# Altium footprint library micro-motorola.PCBLIB: 28 footprints (part 2 of 2)
Each footprint in its own frame and in the unit in brackets; x right, y up, seen from the top. Pads: shape width x height; smd on the part's side, far side on the other; paste and mask are expansions set on the pad; w line width, h text height; cw(c..) or ccw(c..) is an arc to the next point about the centre after c.
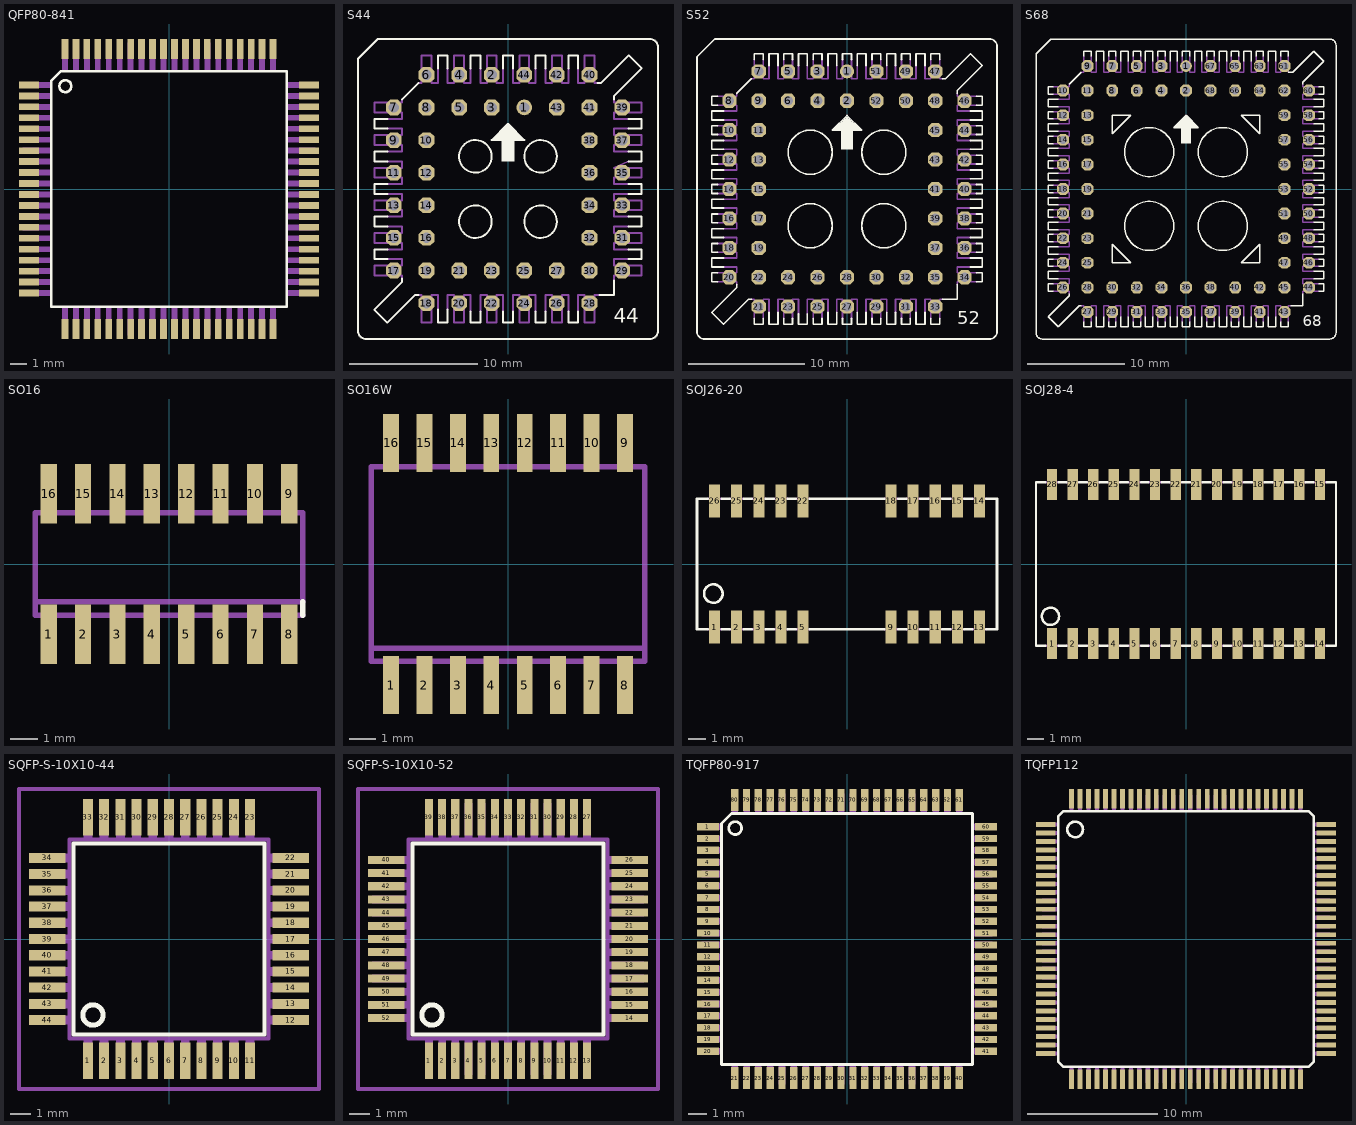
[diagram p1: the footprints below, top view; thin cyan lines are the x and y axes]

## QFP80-841 [mm]
pads (80):
  rect 1.2x0.4 smd: 1(-8.3,6.175) 2(-8.3,5.525) 3(-8.3,4.875) 4(-8.3,4.225) 5(-8.3,3.575) 6(-8.3,2.925) 7(-8.3,2.275) 8(-8.3,1.625) 9(-8.3,0.975) 10(-8.3,0.325) 11(-8.3,-0.325) 12(-8.3,-0.975) 13(-8.3,-1.625) 14(-8.3,-2.275) 15(-8.3,-2.925) 16(-8.3,-3.575) 17(-8.3,-4.225) 18(-8.3,-4.875) 19(-8.3,-5.525) 20(-8.3,-6.175) 41(8.3,-6.175) 42(8.3,-5.525) 43(8.3,-4.875) 44(8.3,-4.225) 45(8.3,-3.575) 46(8.3,-2.925) 47(8.3,-2.275) 48(8.3,-1.625) 49(8.3,-0.975) 50(8.3,-0.325) 51(8.3,0.325) 52(8.3,0.975) 53(8.3,1.625) 54(8.3,2.275) 55(8.3,2.925) 56(8.3,3.575) 57(8.3,4.225) 58(8.3,4.875) 59(8.3,5.525) 60(8.3,6.175)
  rect 0.4x1.2 smd: 21(-6.175,-8.3) 22(-5.525,-8.3) 23(-4.875,-8.3) 24(-4.225,-8.3) 25(-3.575,-8.3) 26(-2.925,-8.3) 27(-2.275,-8.3) 28(-1.625,-8.3) 29(-0.975,-8.3) 30(-0.325,-8.3) 31(0.325,-8.3) 32(0.975,-8.3) 33(1.625,-8.3) 34(2.275,-8.3) 35(2.925,-8.3) 36(3.575,-8.3) 37(4.225,-8.3) 38(4.875,-8.3) 39(5.525,-8.3) 40(6.175,-8.3) 61(6.175,8.3) 62(5.525,8.3) 63(4.875,8.3) 64(4.225,8.3) 65(3.575,8.3) 66(2.925,8.3) 67(2.275,8.3) 68(1.625,8.3) 69(0.975,8.3) 70(0.325,8.3) 71(-0.325,8.3) 72(-0.975,8.3) 73(-1.625,8.3) 74(-2.275,8.3) 75(-2.925,8.3) 76(-3.575,8.3) 77(-4.225,8.3) 78(-4.875,8.3) 79(-5.525,8.3) 80(-6.175,8.3)
Top Overlay:
  circle w0.152: c-6.15,6.1 r0.354
  lines w0.152: -6.98,-6.98 6.98,-6.98 6.98,6.98 -6.43,6.98 -6.98,6.43 -6.98,-6.98
Mechanical 16:
  rectangle: -8.7,6 -7.02,6.35
  rectangle: -8.7,5.35 -7.02,5.7
  rectangle: -8.7,4.7 -7.02,5.05
  rectangle: -8.7,4.05 -7.02,4.4
  rectangle: -8.7,3.4 -7.02,3.75
  rectangle: -8.7,2.75 -7.02,3.1
  rectangle: -8.7,2.1 -7.02,2.45
  rectangle: -8.7,1.45 -7.02,1.8
  rectangle: -8.7,0.8 -7.02,1.15
  rectangle: -8.7,0.15 -7.02,0.5
  rectangle: -8.7,-0.5 -7.02,-0.15
  rectangle: -8.7,-1.15 -7.02,-0.8
  rectangle: -8.7,-1.8 -7.02,-1.45
  rectangle: -8.7,-2.45 -7.02,-2.1
  rectangle: -8.7,-3.1 -7.02,-2.75
  rectangle: -8.7,-3.75 -7.02,-3.4
  rectangle: -8.7,-4.4 -7.02,-4.05
  rectangle: -8.7,-5.05 -7.02,-4.7
  rectangle: -8.7,-5.7 -7.02,-5.35
  rectangle: -8.7,-6.35 -7.02,-6
  rectangle: -6.35,-8.7 -6,-7.02
  rectangle: -5.7,-8.7 -5.35,-7.02
  rectangle: -5.05,-8.7 -4.7,-7.02
  rectangle: -4.4,-8.7 -4.05,-7.02
  rectangle: -3.75,-8.7 -3.4,-7.02
  rectangle: -3.1,-8.7 -2.75,-7.02
  rectangle: -2.45,-8.7 -2.1,-7.02
  rectangle: -1.8,-8.7 -1.45,-7.02
  rectangle: -1.15,-8.7 -0.8,-7.02
  rectangle: -0.5,-8.7 -0.15,-7.02
  rectangle: 0.15,-8.7 0.5,-7.02
  rectangle: 0.8,-8.7 1.15,-7.02
  rectangle: 1.45,-8.7 1.8,-7.02
  rectangle: 2.1,-8.7 2.45,-7.02
  rectangle: 2.75,-8.7 3.1,-7.02
  rectangle: 3.4,-8.7 3.75,-7.02
  rectangle: 4.05,-8.7 4.4,-7.02
  rectangle: 4.7,-8.7 5.05,-7.02
  rectangle: 5.35,-8.7 5.7,-7.02
  rectangle: 6,-8.7 6.35,-7.02
  rectangle: 7.02,-6.35 8.7,-6
  rectangle: 7.02,-5.7 8.7,-5.35
  rectangle: 7.02,-5.05 8.7,-4.7
  rectangle: 7.02,-4.4 8.7,-4.05
  rectangle: 7.02,-3.75 8.7,-3.4
  rectangle: 7.02,-3.1 8.7,-2.75
  rectangle: 7.02,-2.45 8.7,-2.1
  rectangle: 7.02,-1.8 8.7,-1.45
  rectangle: 7.02,-1.15 8.7,-0.8
  rectangle: 7.02,-0.5 8.7,-0.15
  rectangle: 7.02,0.15 8.7,0.5
  rectangle: 7.02,0.8 8.7,1.15
  rectangle: 7.02,1.45 8.7,1.8
  rectangle: 7.02,2.1 8.7,2.45
  rectangle: 7.02,2.75 8.7,3.1
  rectangle: 7.02,3.4 8.7,3.75
  rectangle: 7.02,4.05 8.7,4.4
  rectangle: 7.02,4.7 8.7,5.05
  rectangle: 7.02,5.35 8.7,5.7
  rectangle: 7.02,6 8.7,6.35
  rectangle: 6,7.02 6.35,8.7
  rectangle: 5.35,7.02 5.7,8.7
  rectangle: 4.7,7.02 5.05,8.7
  rectangle: 4.05,7.02 4.4,8.7
  rectangle: 3.4,7.02 3.75,8.7
  rectangle: 2.75,7.02 3.1,8.7
  rectangle: 2.1,7.02 2.45,8.7
  rectangle: 1.45,7.02 1.8,8.7
  rectangle: 0.8,7.02 1.15,8.7
  rectangle: 0.15,7.02 0.5,8.7
  rectangle: -0.5,7.02 -0.15,8.7
  rectangle: -1.15,7.02 -0.8,8.7
  rectangle: -1.8,7.02 -1.45,8.7
  rectangle: -2.45,7.02 -2.1,8.7
  rectangle: -3.1,7.02 -2.75,8.7
  rectangle: -3.75,7.02 -3.4,8.7
  rectangle: -4.4,7.02 -4.05,8.7
  rectangle: -5.05,7.02 -4.7,8.7
  rectangle: -5.7,7.02 -5.35,8.7
  rectangle: -6.35,7.02 -6,8.7

## S44 [mil]
pads (44):
  round 48 hole 32: 1(50,250)
  oct 48x48 hole 32: 2(-50,350) 3(-50,250) 4(-150,350) 5(-150,250) 6(-250,350) 7(-350,250) 8(-250,250) 9(-350,150) 10(-250,150) 11(-350,50) 12(-250,50) 13(-350,-50) 14(-250,-50) 15(-350,-150) 16(-250,-150) 17(-350,-250) 18(-250,-350) 19(-250,-250) 20(-150,-350) 21(-150,-250) 22(-50,-350) 23(-50,-250) 24(50,-350) 25(50,-250) 26(150,-350) 27(150,-250) 28(250,-350) 29(350,-250) 30(250,-250) 31(350,-150) 32(250,-150) 33(350,-50) 34(250,-50) 35(350,50) 36(250,50) 37(350,150) 38(250,150) 39(350,250) 40(250,350) 41(250,250) 42(150,350) 43(150,250) 44(50,350)
Top Overlay:
  circle w6: c-100,100 r50
  circle w6: c100,100 r50
  circle w6: c-100,-100 r50
  circle w6: c100,-100 r50
  rectangle: -20,85 20,160
  rectangle: -35,150 35,165
  rectangle: -25,165 25,175
  rectangle: -15,175 15,185
  rectangle: -5,185 5,195
  rectangle: -45,150 -35,155
  rectangle: -40,155 -35,160
  rectangle: -30,165 -25,170
  rectangle: -20,175 -15,180
  rectangle: -10,185 -5,190
  rectangle: 5,185 10,190
  rectangle: 15,175 20,180
  rectangle: 25,165 30,170
  rectangle: 35,150 45,155
  rectangle: 35,155 40,160
  lines w6: -370,-215 -410,-215 -410,-185 -370,-185 ; -370,-115 -410,-115 -410,-85 -370,-85 ; -370,-15 -410,-15 -410,15 -370,15 ; -370,85 -410,85 -410,115 -370,115 ; -370,185 -410,185 -410,215 -370,215 ; -325,-275 -325,-285 -410,-370 -370,-410 -285,-325 -275,-325 ; -325,275 -275,325 ; -215,-370 -215,-410 -185,-410 -185,-370 ; -215,370 -215,410 -185,410 -185,370 ; -115,-375 -115,-410 -85,-410 -85,-375 ; -115,370 -115,410 -85,410 -85,370 ; -15,-375 -15,-410 15,-410 15,-375 ; -15,370 -15,410 15,410 15,370 ; 85,-375 85,-410 115,-410 115,-375 ; 85,370 85,410 115,410 115,370 ; 185,-375 185,-410 215,-410 215,-375 ; 185,370 185,410 215,410 215,370 ; 275,325 285,325 370,410 410,370 325,285 325,275 ; 280,-325 325,-325 325,-280 ; 370,-215 410,-215 410,-185 370,-185 ; 370,-115 410,-115 410,-85 370,-85 ; 370,-15 410,-15 410,15 370,15 ; 370,85 410,85 410,115 370,115 ; 370,185 410,185 410,215 370,215 ; -460,-435 -460,400 -400,460 435,460 cw(c435,435) 460,435 460,-435 cw(c435,-435) 435,-460 -435,-460 cw(c-435,-435) -460,-435 ; -50,150 50,150 0,200 -50,150
  text "44" at 325,-425 h77.5
Mechanical 16:
  drawing of 159 lines, arcs and shapes, not listed

## S52 [mil]
pads (52):
  round 48 hole 32: 1(0,400)
  oct 48x48 hole 32: 2(0,300) 3(-100,400) 4(-100,300) 5(-200,400) 6(-200,300) 7(-300,400) 8(-400,300) 9(-300,300) 10(-400,200) 11(-300,200) 12(-400,100) 13(-300,100) 14(-400,0) 15(-300,0) 16(-400,-100) 17(-300,-100) 18(-400,-200) 19(-300,-200) 20(-400,-300) 21(-300,-400) 22(-300,-300) 23(-200,-400) 24(-200,-300) 25(-100,-400) 26(-100,-300) 27(0,-400) 28(0,-300) 29(100,-400) 30(100,-300) 31(200,-400) 32(200,-300) 33(300,-400) 34(400,-300) 35(300,-300) 36(400,-200) 37(300,-200) 38(400,-100) 39(300,-100) 40(400,0) 41(300,0) 42(400,100) 43(300,100) 44(400,200) 45(300,200) 46(400,300) 47(300,400) 48(300,300) 49(200,400) 50(200,300) 51(100,400) 52(100,300)
Top Overlay:
  drawing of 199 lines, arcs and shapes, not listed
  text "52" at 375,-475 h77.5
Mechanical 16:
  drawing of 160 lines, arcs and shapes, not listed

## S68 [mil]
pads (68):
  round 48 hole 32: 1(0,500)
  oct 48x48 hole 32: 2(0,400) 3(-100,500) 4(-100,400) 5(-200,500) 6(-200,400) 7(-300,500) 8(-300,400) 9(-400,500) 10(-500,400) 11(-400,400) 12(-500,300) 13(-400,300) 14(-500,200) 15(-400,200) 16(-500,100) 17(-400,100) 18(-500,0) 19(-400,0) 20(-500,-100) 21(-400,-100) 22(-500,-200) 23(-400,-200) 24(-500,-300) 25(-400,-300) 26(-500,-400) 27(-400,-500) 28(-400,-400) 29(-300,-500) 30(-300,-400) 31(-200,-500) 32(-200,-400) 33(-100,-500) 34(-100,-400) 35(0,-500) 36(0,-400) 37(100,-500) 38(100,-400) 39(200,-500) 40(200,-400) 41(300,-500) 42(300,-400) 43(400,-500) 44(500,-400) 45(400,-400) 46(500,-300) 47(400,-300) 48(500,-200) 49(400,-200) 50(500,-100) 51(400,-100) 52(500,0) 53(400,0) 54(500,100) 55(400,100) 56(500,200) 57(400,200) 58(500,300) 59(400,300) 60(500,400) 61(400,500) 62(400,400) 63(300,500) 64(300,400) 65(200,500) 66(200,400) 67(100,500) 68(100,400)
Top Overlay:
  drawing of 259 lines, arcs and shapes, not listed
  text "68" at 475,-575 h77.5
Mechanical 16:
  drawing of 207 lines, arcs and shapes, not listed

## SO16 [mil]
pads (16):
  rect 23.62x86.61 smd: 1(-175,-102.36) 2(-125,-102.36) 3(-75,-102.36) 4(-25,-102.36) 5(25,-102.36) 6(75,-102.36) 7(125,-102.36) 8(175,-102.36) 9(175,102.36) 10(125,102.36) 11(75,102.36) 12(25,102.36) 13(-25,102.36) 14(-75,102.36) 15(-125,102.36) 16(-175,102.36)
Top Overlay:
  lines w8: 194.49,-74.8 194.49,-55.12
Mechanical 16:
  rectangle: -184.65,-122.05 -165.35,-78.74
  rectangle: -134.65,-122.05 -115.35,-78.74
  rectangle: -84.65,-122.05 -65.35,-78.74
  rectangle: -34.65,-122.05 -15.35,-78.74
  rectangle: 65.35,78.74 84.65,122.05
  rectangle: 15.35,78.74 34.65,122.05
  rectangle: -34.65,78.74 -15.35,122.05
  rectangle: -84.65,78.74 -65.35,122.05
  rectangle: 15.35,-122.05 34.65,-78.74
  rectangle: 65.35,-122.05 84.65,-78.74
  rectangle: 115.35,-122.05 134.65,-78.74
  rectangle: 165.35,-122.05 184.65,-78.74
  rectangle: 165.35,78.74 184.65,122.05
  rectangle: 115.35,78.74 134.65,122.05
  rectangle: -134.65,78.74 -115.35,122.05
  rectangle: -184.65,78.74 -165.35,122.05
  lines w8: 194.49,-74.8 -194.49,-74.8 -194.49,-55.12 ; -194.49,-55.12 -194.49,74.8 194.49,74.8 194.49,-55.12 -194.49,-55.12

## SO16W [mil]
pads (16):
  rect 23.62x86.61 smd: 1(-175,-181.1) 2(-125,-181.1) 3(-75,-181.1) 4(-25,-181.1) 5(25,-181.1) 6(75,-181.1) 7(125,-181.1) 8(175,-181.1) 9(175,181.1) 10(125,181.1) 11(75,181.1) 12(25,181.1) 13(-25,181.1) 14(-75,181.1) 15(-125,181.1) 16(-175,181.1)
Mechanical 16:
  rectangle: -184.65,-209.45 -165.35,-149.61
  rectangle: -134.65,-209.45 -115.35,-149.61
  rectangle: -84.65,-209.45 -65.35,-149.61
  rectangle: -34.65,-209.45 -15.35,-149.61
  rectangle: 15.35,-209.45 34.65,-149.61
  rectangle: 65.35,-209.45 84.65,-149.61
  rectangle: 115.35,-209.45 134.65,-149.61
  rectangle: 165.35,-209.45 184.65,-149.61
  rectangle: 165.35,149.61 184.65,209.45
  rectangle: 115.35,149.61 134.65,209.45
  rectangle: 65.35,149.61 84.65,209.45
  rectangle: 15.35,149.61 34.65,209.45
  rectangle: -34.65,149.61 -15.35,209.45
  rectangle: -84.65,149.61 -65.35,209.45
  rectangle: -134.65,149.61 -115.35,209.45
  rectangle: -184.65,149.61 -165.35,209.45
  lines w8: -204.33,-125.98 -204.33,-145.67 204.33,-145.67 204.33,-125.98 ; -204.33,-125.98 -204.33,145.67 204.33,145.67 204.33,-125.98 ; -204.33,-125.98 204.33,-125.98

## SOJ26-20 [mil]
pads (20):
  rect 25x75 smd: 1(-300,-143) 2(-250,-143) 3(-200,-143) 4(-150,-143) 5(-100,-143) 9(100,-143) 10(150,-143) 11(200,-143) 12(250,-143) 13(300,-143) 14(300,143) 15(250,143) 16(200,143) 17(150,143) 18(100,143) 22(-100,143) 23(-150,143) 24(-200,143) 25(-250,143) 26(-300,143)
Top Overlay:
  circle w6: c-303,-67 r21
  lines w6: -316,-148 -340,-148 -340,148 -316,148 ; -284,-148 -266,-148 ; -284,148 -266,148 ; -234,-148 -216,-148 ; -234,148 -216,148 ; -184,-148 -166,-148 ; -184,148 -166,148 ; -134,-148 -116,-148 ; -134,148 -116,148 ; -84,-148 84,-148 ; -84,148 84,148 ; 116,-148 134,-148 ; 116,148 134,148 ; 166,-148 184,-148 ; 166,148 184,148 ; 216,-148 234,-148 ; 216,148 234,148 ; 266,-148 284,-148 ; 266,148 284,148 ; 316,-148 340,-148 340,148 316,148
Mechanical 16:
  rectangle: 290,150 310,170
  rectangle: 293,120 307,150
  rectangle: 290,-170 310,-150
  rectangle: 293,-150 307,-120
  rectangle: 240,150 260,170
  rectangle: 243,120 257,150
  rectangle: 190,150 210,170
  rectangle: 193,120 207,150
  rectangle: 140,150 160,170
  rectangle: 143,120 157,150
  rectangle: 90,150 110,170
  rectangle: 93,120 107,150
  rectangle: -110,150 -90,170
  rectangle: -107,120 -93,150
  rectangle: -160,150 -140,170
  rectangle: -157,120 -143,150
  rectangle: -210,150 -190,170
  rectangle: -207,120 -193,150
  rectangle: -260,150 -240,170
  rectangle: -257,120 -243,150
  rectangle: -310,150 -290,170
  rectangle: -307,120 -293,150
  rectangle: -310,-170 -290,-150
  rectangle: -307,-150 -293,-120
  rectangle: -260,-170 -240,-150
  rectangle: -257,-150 -243,-120
  rectangle: -210,-170 -190,-150
  rectangle: -207,-150 -193,-120
  rectangle: -160,-170 -140,-150
  rectangle: -157,-150 -143,-120
  rectangle: -110,-170 -90,-150
  rectangle: -107,-150 -93,-120
  rectangle: 90,-170 110,-150
  rectangle: 93,-150 107,-120
  rectangle: 140,-170 160,-150
  rectangle: 143,-150 157,-120
  rectangle: 190,-170 210,-150
  rectangle: 193,-150 207,-120
  rectangle: 240,-170 260,-150
  rectangle: 243,-150 257,-120
  lines w6: -314,-148 -286,-148 ; -314,148 -286,148 ; -264,-148 -236,-148 ; -264,148 -236,148 ; -214,-148 -186,-148 ; -214,148 -186,148 ; -164,-148 -136,-148 ; -164,148 -136,148 ; -114,-148 -86,-148 ; -114,148 -86,148 ; 86,-148 114,-148 ; 86,148 114,148 ; 136,-148 164,-148 ; 136,148 164,148 ; 186,-148 214,-148 ; 186,148 214,148 ; 236,-148 264,-148 ; 236,148 264,148 ; 286,-148 314,-148 ; 286,148 314,148

## SOJ28-4 [mil]
pads (28):
  rect 25x75 smd: 1(-325,-193) 2(-275,-193) 3(-225,-193) 4(-175,-193) 5(-125,-193) 6(-75,-193) 7(-25,-193) 8(25,-193) 9(75,-193) 10(125,-193) 11(175,-193) 12(225,-193) 13(275,-193) 14(325,-193) 15(325,193) 16(275,193) 17(225,193) 18(175,193) 19(125,193) 20(75,193) 21(25,193) 22(-25,193) 23(-75,193) 24(-125,193) 25(-175,193) 26(-225,193) 27(-275,193) 28(-325,193)
Top Overlay:
  circle w6: c-329,-127 r21
  lines w6: -341,-198 -364,-198 -364,198 -341,198 ; -309,-198 -291,-198 ; -309,198 -291,198 ; -259,-198 -241,-198 ; -259,198 -241,198 ; -209,-198 -191,-198 ; -209,198 -191,198 ; -159,-198 -141,-198 ; -159,198 -141,198 ; -109,-198 -91,-198 ; -109,198 -91,198 ; -59,-198 -41,-198 ; -59,198 -41,198 ; -9,-198 9,-198 ; -9,198 9,198 ; 41,-198 59,-198 ; 41,198 59,198 ; 91,-198 109,-198 ; 91,198 109,198 ; 141,-198 159,-198 ; 141,198 159,198 ; 191,-198 209,-198 ; 191,198 209,198 ; 241,-198 259,-198 ; 241,198 259,198 ; 291,-198 309,-198 ; 291,198 309,198 ; 341,-198 364,-198 364,198 341,198
Mechanical 16:
  rectangle: 315,200 335,220
  rectangle: 318,170 332,200
  rectangle: 315,-220 335,-200
  rectangle: 318,-200 332,-170
  rectangle: 265,200 285,220
  rectangle: 268,170 282,200
  rectangle: 215,200 235,220
  rectangle: 218,170 232,200
  rectangle: 165,200 185,220
  rectangle: 168,170 182,200
  rectangle: 115,200 135,220
  rectangle: 118,170 132,200
  rectangle: 65,200 85,220
  rectangle: 68,170 82,200
  rectangle: 15,200 35,220
  rectangle: 18,170 32,200
  rectangle: -35,200 -15,220
  rectangle: -32,170 -18,200
  rectangle: -185,200 -165,220
  rectangle: -182,170 -168,200
  rectangle: -135,200 -115,220
  rectangle: -132,170 -118,200
  rectangle: -85,200 -65,220
  rectangle: -82,170 -68,200
  rectangle: -235,200 -215,220
  rectangle: -232,170 -218,200
  rectangle: -285,200 -265,220
  rectangle: -282,170 -268,200
  rectangle: -335,200 -315,220
  rectangle: -332,170 -318,200
  rectangle: -335,-220 -315,-200
  rectangle: -332,-200 -318,-170
  rectangle: -285,-220 -265,-200
  rectangle: -282,-200 -268,-170
  rectangle: -235,-220 -215,-200
  rectangle: -232,-200 -218,-170
  rectangle: -185,-220 -165,-200
  rectangle: -182,-200 -168,-170
  rectangle: -135,-220 -115,-200
  rectangle: -132,-200 -118,-170
  rectangle: -85,-220 -65,-200
  rectangle: -82,-200 -68,-170
  rectangle: -35,-220 -15,-200
  rectangle: -32,-200 -18,-170
  rectangle: 15,-220 35,-200
  rectangle: 18,-200 32,-170
  rectangle: 65,-220 85,-200
  rectangle: 68,-200 82,-170
  rectangle: 115,-220 135,-200
  rectangle: 118,-200 132,-170
  rectangle: 165,-220 185,-200
  rectangle: 168,-200 182,-170
  rectangle: 215,-220 235,-200
  rectangle: 218,-200 232,-170
  rectangle: 265,-220 285,-200
  rectangle: 268,-200 282,-170
  lines w6: -339,-198 -311,-198 ; -339,198 -311,198 ; -289,-198 -261,-198 ; -289,198 -261,198 ; -239,-198 -211,-198 ; -239,198 -211,198 ; -189,-198 -161,-198 ; -189,198 -161,198 ; -139,-198 -111,-198 ; -139,198 -111,198 ; -89,-198 -61,-198 ; -89,198 -61,198 ; -39,-198 -11,-198 ; -39,198 -11,198 ; 11,-198 39,-198 ; 11,198 39,198 ; 61,-198 89,-198 ; 61,198 89,198 ; 111,-198 139,-198 ; 111,198 139,198 ; 161,-198 189,-198 ; 161,198 189,198 ; 211,-198 239,-198 ; 211,198 239,198 ; 261,-198 289,-198 ; 261,198 289,198 ; 311,-198 339,-198 ; 311,198 339,198

## SQFP-S-10X10-44 [mm]
pads (44):
  rect 0.5x1.8 smd: 1(-4,-6) 2(-3.2,-6) 3(-2.4,-6) 4(-1.6,-6) 5(-0.8,-6) 6(0,-6) 7(0.8,-6) 8(1.6,-6) 9(2.4,-6) 10(3.2,-6) 11(4,-6) 23(4,6) 24(3.2,6) 25(2.4,6) 26(1.6,6) 27(0.8,6) 28(0,6) 29(-0.8,6) 30(-1.6,6) 31(-2.4,6) 32(-3.2,6) 33(-4,6)
  rect 1.8x0.5 smd: 12(6,-4) 13(6,-3.2) 14(6,-2.4) 15(6,-1.6) 16(6,-0.8) 17(6,0) 18(6,0.8) 19(6,1.6) 20(6,2.4) 21(6,3.2) 22(6,4) 34(-6,4) 35(-6,3.2) 36(-6,2.4) 37(-6,1.6) 38(-6,0.8) 39(-6,0) 40(-6,-0.8) 41(-6,-1.6) 42(-6,-2.4) 43(-6,-3.2) 44(-6,-4)
Top Overlay:
  circle w0.254: c-3.75,-3.75 r0.5
  lines w0.203: -4.72,-4.71 4.71,-4.71 4.71,4.71 -4.72,4.71 -4.72,-4.71
Mechanical 16:
  rectangle: -4.22,-6.72 -3.78,-4.95
  rectangle: -3.42,-6.72 -2.98,-4.95
  rectangle: -2.62,-6.72 -2.18,-4.95
  rectangle: -1.82,-6.72 -1.38,-4.95
  rectangle: -1.02,-6.72 -0.58,-4.95
  rectangle: -0.22,-6.72 0.22,-4.95
  rectangle: 0.58,-6.72 1.02,-4.95
  rectangle: 1.38,-6.72 1.82,-4.95
  rectangle: 2.18,-6.72 2.62,-4.95
  rectangle: 2.98,-6.72 3.42,-4.95
  rectangle: 3.78,-6.72 4.22,-4.95
  rectangle: 4.95,-4.22 6.72,-3.78
  rectangle: 4.95,-3.42 6.72,-2.98
  rectangle: 4.95,-2.62 6.72,-2.18
  rectangle: 4.95,-1.82 6.72,-1.38
  rectangle: 4.95,-1.02 6.72,-0.58
  rectangle: 4.95,-0.22 6.72,0.22
  rectangle: 4.95,0.58 6.72,1.02
  rectangle: 4.95,1.38 6.72,1.82
  rectangle: 4.95,2.18 6.72,2.62
  rectangle: 4.95,2.98 6.72,3.42
  rectangle: 4.95,3.78 6.72,4.22
  rectangle: 3.78,4.95 4.22,6.72
  rectangle: 2.98,4.95 3.42,6.72
  rectangle: 2.18,4.95 2.62,6.72
  rectangle: 1.38,4.95 1.82,6.72
  rectangle: 0.58,4.95 1.02,6.72
  rectangle: -0.22,4.95 0.22,6.72
  rectangle: -1.02,4.95 -0.58,6.72
  rectangle: -1.82,4.95 -1.38,6.72
  rectangle: -2.62,4.95 -2.18,6.72
  rectangle: -3.42,4.95 -2.98,6.72
  rectangle: -4.22,4.95 -3.78,6.72
  rectangle: -6.72,3.78 -4.95,4.22
  rectangle: -6.72,2.98 -4.95,3.42
  rectangle: -6.72,2.18 -4.95,2.62
  rectangle: -6.72,1.38 -4.95,1.82
  rectangle: -6.72,0.58 -4.95,1.02
  rectangle: -6.72,-0.22 -4.95,0.22
  rectangle: -6.72,-1.02 -4.95,-0.58
  rectangle: -6.72,-1.82 -4.95,-1.38
  rectangle: -6.72,-2.62 -4.95,-2.18
  rectangle: -6.72,-3.42 -4.95,-2.98
  rectangle: -6.72,-4.22 -4.95,-3.78
  lines w0.203: -4.91,-4.91 4.91,-4.91 4.91,4.91 -4.91,4.91 -4.91,-4.91
Mechanical 27:
  lines w0.2: -7.4,-7.4 -7.4,7.4 7.4,7.4 7.4,-7.4 -7.4,-7.4

## SQFP-S-10X10-52 [mm]
pads (52):
  rect 0.4x1.8 smd: 1(-3.9,-6) 2(-3.25,-6) 3(-2.6,-6) 4(-1.95,-6) 5(-1.3,-6) 6(-0.65,-6) 7(0,-6) 8(0.65,-6) 9(1.3,-6) 10(1.95,-6) 11(2.6,-6) 12(3.25,-6) 13(3.9,-6) 27(3.9,6) 28(3.25,6) 29(2.6,6) 30(1.95,6) 31(1.3,6) 32(0.65,6) 33(0,6) 34(-0.65,6) 35(-1.3,6) 36(-1.95,6) 37(-2.6,6) 38(-3.25,6) 39(-3.9,6)
  rect 1.8x0.4 smd: 14(6,-3.9) 15(6,-3.25) 16(6,-2.6) 17(6,-1.95) 18(6,-1.3) 19(6,-0.65) 20(6,0) 21(6,0.65) 22(6,1.3) 23(6,1.95) 24(6,2.6) 25(6,3.25) 26(6,3.9) 40(-6,3.9) 41(-6,3.25) 42(-6,2.6) 43(-6,1.95) 44(-6,1.3) 45(-6,0.65) 46(-6,0) 47(-6,-0.65) 48(-6,-1.3) 49(-6,-1.95) 50(-6,-2.6) 51(-6,-3.25) 52(-6,-3.9)
Top Overlay:
  circle w0.254: c-3.75,-3.75 r0.5
  lines w0.203: -4.72,-4.71 4.71,-4.71 4.71,4.71 -4.72,4.71 -4.72,-4.71
Mechanical 16:
  rectangle: -4.09,-6.72 -3.71,-4.95
  rectangle: -3.44,-6.72 -3.06,-4.95
  rectangle: -2.79,-6.72 -2.41,-4.95
  rectangle: -2.14,-6.72 -1.76,-4.95
  rectangle: -1.49,-6.72 -1.11,-4.95
  rectangle: -0.84,-6.72 -0.46,-4.95
  rectangle: -0.19,-6.72 0.19,-4.95
  rectangle: 0.46,-6.72 0.84,-4.95
  rectangle: 1.11,-6.72 1.49,-4.95
  rectangle: 1.76,-6.72 2.14,-4.95
  rectangle: 2.41,-6.72 2.79,-4.95
  rectangle: 3.06,-6.72 3.44,-4.95
  rectangle: 3.71,-6.72 4.09,-4.95
  rectangle: 4.95,-4.09 6.72,-3.71
  rectangle: 4.95,-3.44 6.72,-3.06
  rectangle: 4.95,-2.79 6.72,-2.41
  rectangle: 4.95,-2.14 6.72,-1.76
  rectangle: 4.95,-1.49 6.72,-1.11
  rectangle: 4.95,-0.84 6.72,-0.46
  rectangle: 4.95,-0.19 6.72,0.19
  rectangle: 4.95,0.46 6.72,0.84
  rectangle: 4.95,1.11 6.72,1.49
  rectangle: 4.95,1.76 6.72,2.14
  rectangle: 4.95,2.41 6.72,2.79
  rectangle: 4.95,3.06 6.72,3.44
  rectangle: 4.95,3.71 6.72,4.09
  rectangle: 3.71,4.95 4.09,6.72
  rectangle: 3.06,4.95 3.44,6.72
  rectangle: 2.41,4.95 2.79,6.72
  rectangle: 1.76,4.95 2.14,6.72
  rectangle: 1.11,4.95 1.49,6.72
  rectangle: 0.46,4.95 0.84,6.72
  rectangle: -0.19,4.95 0.19,6.72
  rectangle: -0.84,4.95 -0.46,6.72
  rectangle: -1.49,4.95 -1.11,6.72
  rectangle: -2.14,4.95 -1.76,6.72
  rectangle: -2.79,4.95 -2.41,6.72
  rectangle: -3.44,4.95 -3.06,6.72
  rectangle: -4.09,4.95 -3.71,6.72
  rectangle: -6.72,3.71 -4.95,4.09
  rectangle: -6.72,3.06 -4.95,3.44
  rectangle: -6.72,2.41 -4.95,2.79
  rectangle: -6.72,1.76 -4.95,2.14
  rectangle: -6.72,1.11 -4.95,1.49
  rectangle: -6.72,0.46 -4.95,0.84
  rectangle: -6.72,-0.19 -4.95,0.19
  rectangle: -6.72,-0.84 -4.95,-0.46
  rectangle: -6.72,-1.49 -4.95,-1.11
  rectangle: -6.72,-2.14 -4.95,-1.76
  rectangle: -6.72,-2.79 -4.95,-2.41
  rectangle: -6.72,-3.44 -4.95,-3.06
  rectangle: -6.72,-4.09 -4.95,-3.71
  lines w0.203: -4.91,-4.91 4.91,-4.91 4.91,4.91 -4.91,4.91 -4.91,-4.91
Mechanical 27:
  lines w0.2: -7.4,-7.4 -7.4,7.4 7.4,7.4 7.4,-7.4 -7.4,-7.4

## TQFP80-917 [mm]
pads (80):
  rect 1.2x0.4 smd: 1(-7.65,6.175) 2(-7.65,5.525) 3(-7.65,4.875) 4(-7.65,4.225) 5(-7.65,3.575) 6(-7.65,2.925) 7(-7.65,2.275) 8(-7.65,1.625) 9(-7.65,0.975) 10(-7.65,0.325) 11(-7.65,-0.325) 12(-7.65,-0.975) 13(-7.65,-1.625) 14(-7.65,-2.275) 15(-7.65,-2.925) 16(-7.65,-3.575) 17(-7.65,-4.225) 18(-7.65,-4.875) 19(-7.65,-5.525) 20(-7.65,-6.175) 41(7.65,-6.175) 42(7.65,-5.525) 43(7.65,-4.875) 44(7.65,-4.225) 45(7.65,-3.575) 46(7.65,-2.925) 47(7.65,-2.275) 48(7.65,-1.625) 49(7.65,-0.975) 50(7.65,-0.325) 51(7.65,0.325) 52(7.65,0.975) 53(7.65,1.625) 54(7.65,2.275) 55(7.65,2.925) 56(7.65,3.575) 57(7.65,4.225) 58(7.65,4.875) 59(7.65,5.525) 60(7.65,6.175)
  rect 0.4x1.2 smd: 21(-6.175,-7.65) 22(-5.525,-7.65) 23(-4.875,-7.65) 24(-4.225,-7.65) 25(-3.575,-7.65) 26(-2.925,-7.65) 27(-2.275,-7.65) 28(-1.625,-7.65) 29(-0.975,-7.65) 30(-0.325,-7.65) 31(0.325,-7.65) 32(0.975,-7.65) 33(1.625,-7.65) 34(2.275,-7.65) 35(2.925,-7.65) 36(3.575,-7.65) 37(4.225,-7.65) 38(4.875,-7.65) 39(5.525,-7.65) 40(6.175,-7.65) 61(6.175,7.65) 62(5.525,7.65) 63(4.875,7.65) 64(4.225,7.65) 65(3.575,7.65) 66(2.925,7.65) 67(2.275,7.65) 68(1.625,7.65) 69(0.975,7.65) 70(0.325,7.65) 71(-0.325,7.65) 72(-0.975,7.65) 73(-1.625,7.65) 74(-2.275,7.65) 75(-2.925,7.65) 76(-3.575,7.65) 77(-4.225,7.65) 78(-4.875,7.65) 79(-5.525,7.65) 80(-6.175,7.65)
Top Overlay:
  circle w0.152: c-6.15,6.1 r0.354
  lines w0.152: -6.9,-6.9 6.9,-6.9 6.9,6.9 -6.35,6.9 -6.9,6.35 -6.9,-6.9
Mechanical 16:
  rectangle: -8,5.995 -6.94,6.355
  rectangle: -8,5.345 -6.94,5.705
  rectangle: -8,4.695 -6.94,5.055
  rectangle: -8,4.045 -6.94,4.405
  rectangle: -8,3.395 -6.94,3.755
  rectangle: -8,2.745 -6.94,3.105
  rectangle: -8,2.095 -6.94,2.455
  rectangle: -8,1.445 -6.94,1.805
  rectangle: -8,0.795 -6.94,1.155
  rectangle: -8,0.145 -6.94,0.505
  rectangle: -8,-0.505 -6.94,-0.145
  rectangle: -8,-1.155 -6.94,-0.795
  rectangle: -8,-1.805 -6.94,-1.445
  rectangle: -8,-2.455 -6.94,-2.095
  rectangle: -8,-3.105 -6.94,-2.745
  rectangle: -8,-3.755 -6.94,-3.395
  rectangle: -8,-4.405 -6.94,-4.045
  rectangle: -8,-5.055 -6.94,-4.695
  rectangle: -8,-5.705 -6.94,-5.345
  rectangle: -8,-6.355 -6.94,-5.995
  rectangle: -6.355,-8 -5.995,-6.94
  rectangle: -5.705,-8 -5.345,-6.94
  rectangle: -5.055,-8 -4.695,-6.94
  rectangle: -4.405,-8 -4.045,-6.94
  rectangle: -3.755,-8 -3.395,-6.94
  rectangle: -3.105,-8 -2.745,-6.94
  rectangle: -2.455,-8 -2.095,-6.94
  rectangle: -1.805,-8 -1.445,-6.94
  rectangle: -1.155,-8 -0.795,-6.94
  rectangle: -0.505,-8 -0.145,-6.94
  rectangle: 0.145,-8 0.505,-6.94
  rectangle: 0.795,-8 1.155,-6.94
  rectangle: 1.445,-8 1.805,-6.94
  rectangle: 2.095,-8 2.455,-6.94
  rectangle: 2.745,-8 3.105,-6.94
  rectangle: 3.395,-8 3.755,-6.94
  rectangle: 4.045,-8 4.405,-6.94
  rectangle: 4.695,-8 5.055,-6.94
  rectangle: 5.345,-8 5.705,-6.94
  rectangle: 5.995,-8 6.355,-6.94
  rectangle: 6.94,-6.355 8,-5.995
  rectangle: 6.94,-5.705 8,-5.345
  rectangle: 6.94,-5.055 8,-4.695
  rectangle: 6.94,-4.405 8,-4.045
  rectangle: 6.94,-3.755 8,-3.395
  rectangle: 6.94,-3.105 8,-2.745
  rectangle: 6.94,-2.455 8,-2.095
  rectangle: 6.94,-1.805 8,-1.445
  rectangle: 6.94,-1.155 8,-0.795
  rectangle: 6.94,-0.505 8,-0.145
  rectangle: 6.94,0.145 8,0.505
  rectangle: 6.94,0.795 8,1.155
  rectangle: 6.94,1.445 8,1.805
  rectangle: 6.94,2.095 8,2.455
  rectangle: 6.94,2.745 8,3.105
  rectangle: 6.94,3.395 8,3.755
  rectangle: 6.94,4.045 8,4.405
  rectangle: 6.94,4.695 8,5.055
  rectangle: 6.94,5.345 8,5.705
  rectangle: 6.94,5.995 8,6.355
  rectangle: 5.995,6.94 6.355,8
  rectangle: 5.345,6.94 5.705,8
  rectangle: 4.695,6.94 5.055,8
  rectangle: 4.045,6.94 4.405,8
  rectangle: 3.395,6.94 3.755,8
  rectangle: 2.745,6.94 3.105,8
  rectangle: 2.095,6.94 2.455,8
  rectangle: 1.445,6.94 1.805,8
  rectangle: 0.795,6.94 1.155,8
  rectangle: 0.145,6.94 0.505,8
  rectangle: -0.505,6.94 -0.145,8
  rectangle: -1.155,6.94 -0.795,8
  rectangle: -1.805,6.94 -1.445,8
  rectangle: -2.455,6.94 -2.095,8
  rectangle: -3.105,6.94 -2.745,8
  rectangle: -3.755,6.94 -3.395,8
  rectangle: -4.405,6.94 -4.045,8
  rectangle: -5.055,6.94 -4.695,8
  rectangle: -5.705,6.94 -5.345,8
  rectangle: -6.355,6.94 -5.995,8

## TQFP112 [mm]
pads (112):
  rect 1.5x0.37 smd: 1(-10.75,8.775) 2(-10.75,8.125) 3(-10.75,7.475) 4(-10.75,6.825) 5(-10.75,6.175) 6(-10.75,5.525) 7(-10.75,4.875) 8(-10.75,4.225) 9(-10.75,3.575) 10(-10.75,2.925) 11(-10.75,2.275) 12(-10.75,1.625) 13(-10.75,0.975) 14(-10.75,0.325) 15(-10.75,-0.325) 16(-10.75,-0.975) 17(-10.75,-1.625) 18(-10.75,-2.275) 19(-10.75,-2.925) 20(-10.75,-3.575) 21(-10.75,-4.225) 22(-10.75,-4.875) 23(-10.75,-5.525) 24(-10.75,-6.175) 25(-10.75,-6.825) 26(-10.75,-7.475) 27(-10.75,-8.125) 28(-10.75,-8.775) 57(10.75,-8.775) 58(10.75,-8.125) 59(10.75,-7.475) 60(10.75,-6.825) 61(10.75,-6.175) 62(10.75,-5.525) 63(10.75,-4.875) 64(10.75,-4.225) 65(10.75,-3.575) 66(10.75,-2.925) 67(10.75,-2.275) 68(10.75,-1.625) 69(10.75,-0.975) 70(10.75,-0.325) 71(10.75,0.325) 72(10.75,0.975) 73(10.75,1.625) 74(10.75,2.275) 75(10.75,2.925) 76(10.75,3.575) 77(10.75,4.225) 78(10.75,4.875) 79(10.75,5.525) 80(10.75,6.175) 81(10.75,6.825) 82(10.75,7.475) 83(10.75,8.125) 84(10.75,8.775)
  rect 0.37x1.5 smd: 29(-8.775,-10.75) 30(-8.125,-10.75) 31(-7.475,-10.75) 32(-6.825,-10.75) 33(-6.175,-10.75) 34(-5.525,-10.75) 35(-4.875,-10.75) 36(-4.225,-10.75) 37(-3.575,-10.75) 38(-2.925,-10.75) 39(-2.275,-10.75) 40(-1.625,-10.75) 41(-0.975,-10.75) 42(-0.325,-10.75) 43(0.325,-10.75) 44(0.975,-10.75) 45(1.625,-10.75) 46(2.275,-10.75) 47(2.925,-10.75) 48(3.575,-10.75) 49(4.225,-10.75) 50(4.875,-10.75) 51(5.525,-10.75) 52(6.175,-10.75) 53(6.825,-10.75) 54(7.475,-10.75) 55(8.125,-10.75) 56(8.775,-10.75) 85(8.775,10.75) 86(8.125,10.75) 87(7.475,10.75) 88(6.825,10.75) 89(6.175,10.75) 90(5.525,10.75) 91(4.875,10.75) 92(4.225,10.75) 93(3.575,10.75) 94(2.925,10.75) 95(2.275,10.75) 96(1.625,10.75) 97(0.975,10.75) 98(0.325,10.75) 99(-0.325,10.75) 100(-0.975,10.75) 101(-1.625,10.75) 102(-2.275,10.75) 103(-2.925,10.75) 104(-3.575,10.75) 105(-4.225,10.75) 106(-4.875,10.75) 107(-5.525,10.75) 108(-6.175,10.75) 109(-6.825,10.75) 110(-7.475,10.75) 111(-8.125,10.75) 112(-8.775,10.75)
Top Overlay:
  circle w0.203: c-8.5,8.4 r0.6
  lines w0.203: -9.8,-9.4 -9.8,9.4 -9.4,9.8 9.4,9.8 9.8,9.4 9.8,-9.4 9.4,-9.8 -9.4,-9.8 -9.8,-9.4
Mechanical 16:
  rectangle: -11.05,8.612 -9.88,8.937
  rectangle: -11.05,7.962 -9.88,8.288
  rectangle: -11.05,7.312 -9.88,7.638
  rectangle: -11.05,6.662 -9.88,6.988
  rectangle: -11.05,6.012 -9.88,6.338
  rectangle: -11.05,5.362 -9.88,5.688
  rectangle: -11.05,4.712 -9.88,5.038
  rectangle: -11.05,4.062 -9.88,4.388
  rectangle: -11.05,3.412 -9.88,3.738
  rectangle: -11.05,2.763 -9.88,3.088
  rectangle: -11.05,2.113 -9.88,2.437
  rectangle: -11.05,1.463 -9.88,1.787
  rectangle: -11.05,0.813 -9.88,1.137
  rectangle: -11.05,0.163 -9.88,0.487
  rectangle: -11.05,-0.487 -9.88,-0.163
  rectangle: -11.05,-1.137 -9.88,-0.813
  rectangle: -11.05,-1.787 -9.88,-1.463
  rectangle: -11.05,-2.437 -9.88,-2.113
  rectangle: -11.05,-3.088 -9.88,-2.763
  rectangle: -11.05,-3.738 -9.88,-3.412
  rectangle: -11.05,-4.388 -9.88,-4.062
  rectangle: -11.05,-5.038 -9.88,-4.712
  rectangle: -11.05,-5.688 -9.88,-5.362
  rectangle: -11.05,-6.338 -9.88,-6.012
  rectangle: -11.05,-6.988 -9.88,-6.662
  rectangle: -11.05,-7.638 -9.88,-7.312
  rectangle: -11.05,-8.288 -9.88,-7.962
  rectangle: -11.05,-8.937 -9.88,-8.612
  rectangle: -8.937,-11.05 -8.612,-9.88
  rectangle: -8.288,-11.05 -7.962,-9.88
  rectangle: -7.638,-11.05 -7.312,-9.88
  rectangle: -6.988,-11.05 -6.662,-9.88
  rectangle: -6.338,-11.05 -6.012,-9.88
  rectangle: -5.688,-11.05 -5.362,-9.88
  rectangle: -5.038,-11.05 -4.712,-9.88
  rectangle: -4.388,-11.05 -4.062,-9.88
  rectangle: -3.738,-11.05 -3.412,-9.88
  rectangle: -3.088,-11.05 -2.763,-9.88
  rectangle: -2.437,-11.05 -2.113,-9.88
  rectangle: -1.787,-11.05 -1.463,-9.88
  rectangle: -1.137,-11.05 -0.813,-9.88
  rectangle: -0.487,-11.05 -0.163,-9.88
  rectangle: 0.163,-11.05 0.487,-9.88
  rectangle: 0.813,-11.05 1.137,-9.88
  rectangle: 1.463,-11.05 1.787,-9.88
  rectangle: 2.113,-11.05 2.437,-9.88
  rectangle: 2.763,-11.05 3.088,-9.88
  rectangle: 3.412,-11.05 3.738,-9.88
  rectangle: 4.062,-11.05 4.388,-9.88
  rectangle: 4.712,-11.05 5.038,-9.88
  rectangle: 5.362,-11.05 5.688,-9.88
  rectangle: 6.012,-11.05 6.338,-9.88
  rectangle: 6.662,-11.05 6.988,-9.88
  rectangle: 7.312,-11.05 7.638,-9.88
  rectangle: 7.962,-11.05 8.288,-9.88
  rectangle: 8.612,-11.05 8.937,-9.88
  rectangle: 9.88,-8.937 11.05,-8.612
  rectangle: 9.88,-8.288 11.05,-7.962
  rectangle: 9.88,-7.638 11.05,-7.312
  rectangle: 9.88,-6.988 11.05,-6.662
  rectangle: 9.88,-6.338 11.05,-6.012
  rectangle: 9.88,-5.688 11.05,-5.362
  rectangle: 9.88,-5.038 11.05,-4.712
  rectangle: 9.88,-4.388 11.05,-4.062
  rectangle: 9.88,-3.738 11.05,-3.412
  rectangle: 9.88,-3.088 11.05,-2.763
  rectangle: 9.88,-2.437 11.05,-2.113
  rectangle: 9.88,-1.787 11.05,-1.463
  rectangle: 9.88,-1.137 11.05,-0.813
  rectangle: 9.88,-0.487 11.05,-0.163
  rectangle: 9.88,0.163 11.05,0.487
  rectangle: 9.88,0.813 11.05,1.137
  rectangle: 9.88,1.463 11.05,1.787
  rectangle: 9.88,2.113 11.05,2.437
  rectangle: 9.88,2.763 11.05,3.088
  rectangle: 9.88,3.412 11.05,3.738
  rectangle: 9.88,4.062 11.05,4.388
  rectangle: 9.88,4.712 11.05,5.038
  rectangle: 9.88,5.362 11.05,5.688
  rectangle: 9.88,6.012 11.05,6.338
  rectangle: 9.88,6.662 11.05,6.988
  rectangle: 9.88,7.312 11.05,7.638
  rectangle: 9.88,7.962 11.05,8.288
  rectangle: 9.88,8.612 11.05,8.937
  rectangle: 8.612,9.88 8.937,11.05
  rectangle: 7.962,9.88 8.288,11.05
  rectangle: 7.312,9.88 7.638,11.05
  rectangle: 6.662,9.88 6.988,11.05
  rectangle: 6.012,9.88 6.338,11.05
  rectangle: 5.362,9.88 5.688,11.05
  rectangle: 4.712,9.88 5.038,11.05
  rectangle: 4.062,9.88 4.388,11.05
  rectangle: 3.412,9.88 3.738,11.05
  rectangle: 2.763,9.88 3.088,11.05
  rectangle: 2.113,9.88 2.437,11.05
  rectangle: 1.463,9.88 1.787,11.05
  rectangle: 0.813,9.88 1.137,11.05
  rectangle: 0.163,9.88 0.487,11.05
  rectangle: -0.487,9.88 -0.163,11.05
  rectangle: -1.137,9.88 -0.813,11.05
  rectangle: -1.787,9.88 -1.463,11.05
  rectangle: -2.437,9.88 -2.113,11.05
  rectangle: -3.088,9.88 -2.763,11.05
  rectangle: -3.738,9.88 -3.412,11.05
  rectangle: -4.388,9.88 -4.062,11.05
  rectangle: -5.038,9.88 -4.712,11.05
  rectangle: -5.688,9.88 -5.362,11.05
  rectangle: -6.338,9.88 -6.012,11.05
  rectangle: -6.988,9.88 -6.662,11.05
  rectangle: -7.638,9.88 -7.312,11.05
  rectangle: -8.288,9.88 -7.962,11.05
  rectangle: -8.937,9.88 -8.612,11.05